# Altium footprint library passive_component.PcbLib: 20 footprints (part 2 of 2)
Each footprint in its own frame and in the unit in brackets; x right, y up, seen from the top. Pads: shape width x height; smd on the part's side, far side on the other; paste and mask are expansions set on the pad; w line width, h text height; cw(c..) or ccw(c..) is an arc to the next point about the centre after c.
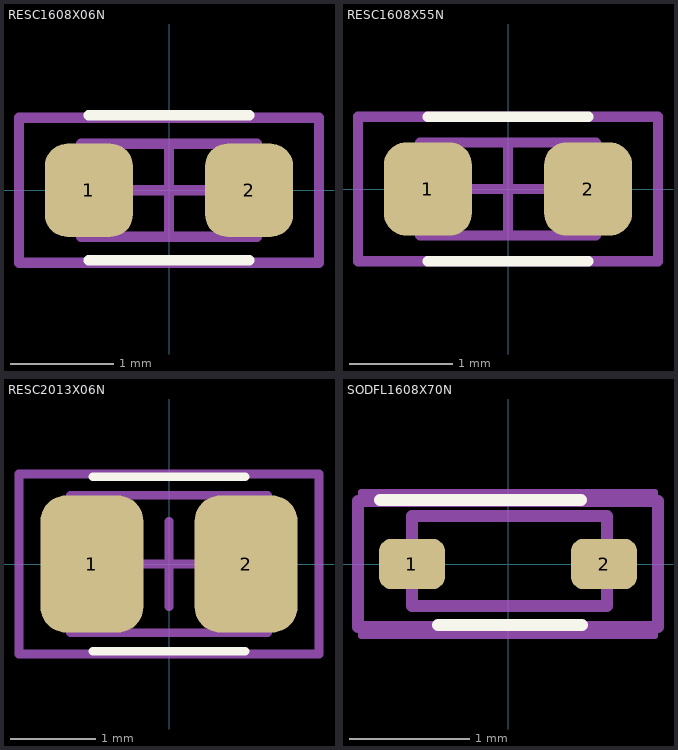
[diagram p1: the footprints below, top view; thin cyan lines are the x and y axes]

## RESC1608X06N [mm] "Chip Resistor, 2-Leads, Body 1,60x0,80mm, IPC Medium Density"
height 0.55
pads (2):
  rrect50% 0.85x0.9 smd: 1(-0.775,0) 2(0.775,0)
Top Overlay:
  lines w0.1: -0.775,-0.675 0.775,-0.675 ; -0.775,0.725 0.775,0.725
Top Courtyard:
  lines w0.1: -0.45,0 0.45,0 ; 0,-0.45 0,0.45 ; -1.45,-0.7 1.45,-0.7 1.45,0.7 -1.45,0.7 -1.45,-0.7
Mechanical 13:
  lines w0.1: -0.85,-0.45 0.85,-0.45 0.85,0.45 -0.85,0.45 -0.85,-0.45
Top Designator:
  text ".Designator" at -1.262,-0.071 h0.25
3D body "RESC1608X06N.step": height 0.55, standoff 0, extent -0.85,-0.45 0.85,0.45

## RESC1608X55N [mm]
pads (2):
  rrect50% 0.85x0.9 smd: 1(-0.775,0) 2(0.775,0)
Top Overlay:
  lines w0.1: -0.775,-0.7 0.775,-0.7 ; -0.775,0.7 0.775,0.7
Top 3D Body:
  lines w0.1: -0.85,-0.45 -0.85,0.45 0.85,0.45 0.85,-0.45 -0.85,-0.45
Top Courtyard:
  lines w0.1: -0.45,0 0.45,0 ; 0,-0.45 0,0.45 ; -1.45,-0.7 -1.45,0.7 1.45,0.7 1.45,-0.7 -1.45,-0.7
Top Designator:
  text ".Designator" at -1.262,-0.096 h0.25
3D body "R0603.step": height 0.55, standoff 0, extent -0.85,-0.45 0.85,0.45

## RESC2013X06N [mm] "Chip Resistor, 2-Leads, Body 2,05x1,30mm, IPC Medium Density"
height 0.55
pads (2):
  rrect50% 1.2x1.6 smd: 1(-0.9,0) 2(0.9,0)
Top Overlay:
  lines w0.1: -0.889,-1.016 0.889,-1.016 ; -0.889,1.016 0.889,1.016
Mechanical 13:
  lines w0.1: -1.15,-0.8 -1.15,0.8 1.15,0.8 1.15,-0.8 -1.15,-0.8
Mechanical 15:
  lines w0.1: -0.5,0 0.5,0 ; 0,-0.5 0,0.5 ; -1.75,-1.05 -1.75,1.05 1.75,1.05 1.75,-1.05 -1.75,-1.05
Top Designator:
  text ".Designator" at -1.004,-0.112 h0.25
3D body: height 0.55, standoff 0, extent -0.75,-0.8 0.75,0.8
3D body: height 0.55, standoff 0, extent -1.15,-0.8 -0.75,0.8
3D body: height 0.55, standoff 0, extent 0.75,-0.8 1.15,0.8

## SODFL1608X70N [mm]
pads (2):
  rrect50% 0.55x0.42 smd: 1(-0.8,0) 2(0.8,0)
Top Overlay:
  lines w0.1: -1.067,0.533 0.608,0.533 ; -0.584,-0.508 0.616,-0.508
Mechanical 13:
  lines w0.1: -0.8,-0.35 -0.8,0.4 0.825,0.4 0.825,-0.35 -0.8,-0.35
Mechanical 15:
  lines w0.1: -1.25,-0.525 -1.25,0.525 1.25,0.525 1.25,-0.525 -1.25,-0.525
Mechanical 20:
  lines w0.05: -1.225,-0.6 -1.225,0.6 1.225,0.6 1.225,-0.6 -1.225,-0.6
Top Designator:
  text ".Designator" at -1.004,-0.112 h0.25
3D body "BAT41KFILM.stp": height 0.7, standoff 0, extent -0.825,-0.375 0.775,0.425